# Altium schematic symbol library CX_10_DJT.SCHLIB: 8 symbols
Pins are listed as number, name and electrical type; pins without a type are passive.

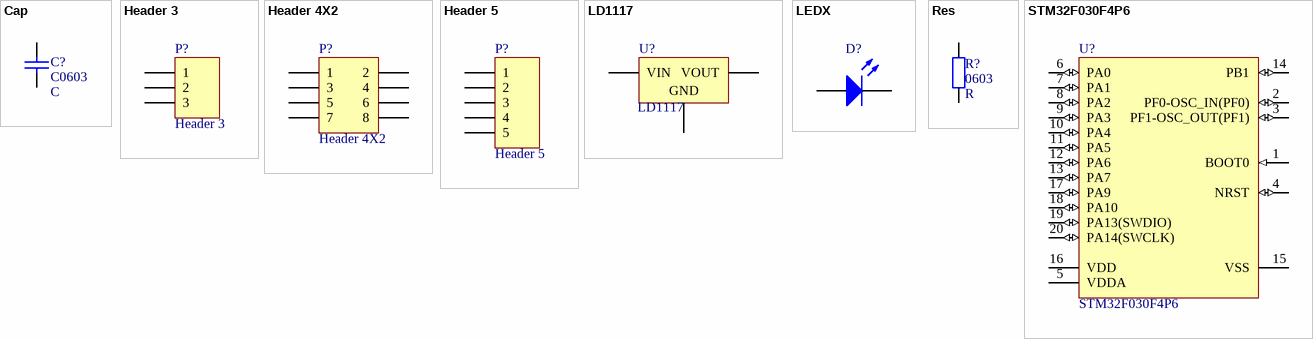
[diagram p0: symbols Cap to STM32F030F4P6]

## Cap
designator C?, comment C
Generic capacitor; Value: C
footprint C0402 (SMD Capacitor, Inch 0402, Metric 1005.)
footprint C0603 (SMD Capacitor, Inch 0603, Metric 1608.)
footprint C0805 (SMD Capacitor, Inch 0805, Metric 2012.)
footprint C1206 (SMD Capacitor, Inch 1206, Metric 3216.)
footprint C1210 (SMD Capacitor, Inch 1210, Metric 3225.)
pins: 1, 2

## Header 3
designator P?
Header, 3-Pin; LatestRevisionDate: 17-Jul-2002; LatestRevisionNote: Re-released for DXP Platform.; Publisher: Altium Limited
footprint HEADER 1X3 MALE (Connector; Header; 3 Position, Male)
signal-integrity model Connector
footprint HEADER 1X3 FEMALE (Connector; Header; 3 Position, Female)
footprint HEADER1X3H Male (Connector; Header; 3 Position; Right Angle; Male)
pins: 1, 2, 3

## Header 4X2
designator P?
Header, 4-Pin, Dual row; LatestRevisionDate: 17-Jul-2002; LatestRevisionNote: Re-released for DXP Platform.; Publisher: Altium Limited
signal-integrity model Connector
footprint HEADER 2X4 FEMALE (Connector; Header; 4x2 Position; Female)
footprint HEADER 2X4H MALE (Connector; Header; 4x2 Position; Right Angle; Male)
footprint HEADER 2X4 MALE (Connector; Header; 4x2 Position; Male)
pins: 1, 2, 3, 4, 5, 6, 7, 8

## Header 5
designator P?
Header, 5-Pin; LatestRevisionDate: 17-Jul-2002; LatestRevisionNote: Re-released for DXP Platform.; Publisher: Altium Limited
signal-integrity model Connector
footprint HEADER 1X5 FEMALE (Connector; Header; 5 Position, Female)
footprint HEADER 1X5H MALE (Connector; Header; 5 Position; Right Angle; Male)
footprint HEADER 1X5 MALE (Connector; Header; 5 Position, Male)
pins: 1, 2, 3, 4, 5

## LD1117
designator U?
Low drop positive voltage regulator; ComponentLink1URL: http://www.st.com/web/en/resource/technical/document/datasheet/CD00000544.pdf; ComponentLink1Description: Datasheet
footprint TO-252 (JEDEC standard. TO-252, variant AA.); pin to pad 2>4 5>4 6>4
footprint SOT-223_M (SOT223, 4-Leads, Body 6.5x3.5mm, Pitch 2.3mm, Lead Span 7mm, IPC Low Density); pin to pad 4>2 5>2 6>2
footprint SOIC-8_M (SOIC, 8-Leads, Body 4.9x3.9mm, Pitch 1.27mm, IPC Low Density); pin to pad 3>4 4>3 5>6 6>7
pins: 1 GND (power), 2 VOUT (power), 3 VIN (power), 4 VOUT (power), 5 VOUT (power), 6 VOUT (power)

## LEDX
designator D?  (value not drawn)
Typical LED
simulation model LED0 (Diode)
footprint LED 0805 Yellow
footprint LED 0805 Blue
footprint LED 0805 GREEN
footprint LED 0805 RED (SODFL, 2-Leads, Body 1,25x2,00mm, IPC Medium Density)
pins: 1 A, 2 K

## Res
designator R?, comment R
Generic resistor; Value: R
footprint 0402 (SMD Resistor, Inch 0402, Metric 1005.)
footprint 0603 (SMD Resistor, Inch 0603, Metric 1608.)
footprint 0805 (SMD Resistor, Inch 0805, Metric 2012.)
footprint 1206 (SMD Resistor, Inch 1206, Metric 3216.)
pins: 1, 2

## STM32F030F4P6
designator U?
ARM Cortex-M0 32-bit MCU, 16 KB Flash, 4 KB Internal RAM, 15 I/Os, 20-pin TSSOP, -40 to 85 degC, Tube; FLASH Size (Prog) (kB): 16; I/Os (High Current): 15; Internal RAM Size (kB): 4; Operating Frequency(F) (Processor speed) (MHz): 48; Supply Voltage(Vcc) min (V): 2.4; DatasheetVersion: Rev. 1; PackageVersion: Rev. 1, 11/2012; PackageReference: TSSOP20; PackageDescription: 20-Pin Thin Shrink Small Outline Package, 6.5 x 4.4 mm Body, 0.65 mm Pitch; Supplier 1: Digi-Key; Supplier Part Number 1: 497-14044-5-ND; Supplier 2: Newark; Supplier Part Number 2: 06X3648; Supplier 3: Mouser; Supplier Part Number 3: 511-STM32F030F4P6; Core: ARM Cortex-M0; Packing: Tube; Mounting Technology: Surface Mount; PartNumber: STM32F030F4P6; ComponentLink1Description: Manufacturer URL; ComponentLink1URL: http://www.st.com/web/en/home.html; ComponentLink2Description: Datasheet; ComponentLink2URL: http://www.st.com/st-web-ui/static/active/en/resource/technical/document/datasheet/DM00088500.pdf; ComponentLink3Description: Package Specification; ComponentLink3URL: http://www.st.com/st-web-ui/static/active/en/resource/technical/document/datasheet/DM00065136.pdf
footprint SSOP20_M (SSOP, 20-Leads, Body 6.6x4.5mm, Pitch 0.65mm, IPC Low Density)
pins: 1 BOOT0 (in) "Boot memory selection", 2 PF0-OSC_IN(PF0) (io) "PF0-OSC_IN(PF0)/OSC_IN", 3 PF1-OSC_OUT(PF1) (io) "PF1-OSC_OUT(PF1)/OSC_OUT", 4 NRST (io) "Device reset input / internal reset output (active low)", 5 VDDA (power) "Analog power supply", 6 PA0 (io) "PA0/USART1_CTS/ADC_IN0,RTC_TAMP2,WKUP1", 7 PA1 (io) "PA1/USART1_RTS,EVENTOUT/ADC_IN1", 8 PA2 (io) "PA2/USART1_TX/ADC_IN2", 9 PA3 (io) "PA3/USART1_RX/ADC_IN3", 10 PA4 (io) "PA4/SPI1_NSS,USART1_CK,TIM14_CH1/ADC_IN4", 11 PA5 (io) "PA5/SPI1_SCK/ADC_IN5", 12 PA6 (io) "PA6/SPI1_MISO,TIM3_CH1,TIM1_BKIN,TIM16_CH1,EVENTOUT/ADC_IN6", 13 PA7 (io) "PA7/SPI1_MOSI,TIM3_CH2,TIM14_CH1,TIM1_CH1N,TIM17_CH1,EVENTOUT/ADC_IN7", 14 PB1 (io) "PB1/TIM3_CH4,TIM14_CH1,TIM1_CH3N/ADC_IN9", 15 VSS (power) "Ground", 16 VDD (power) "Digital power supply", 17 PA9 (io) "PA9/USART1_TX,TIM1_CH2,I2C1_SCL", 18 PA10 (io) "PA10/USART1_RX,TIM1_CH3,TIM17_BKIN,I2C1_SDA", 19 PA13(SWDIO) (io) "PA13(SWDIO)/IR_OUT,SWDIO", 20 PA14(SWCLK) (io) "PA14(SWCLK)/USART1_TX,SWCLK"